# Altium schematic symbol library TDII_SCH_LIB_R00.SchLib: 21 symbols
Pins are listed as number, name and electrical type; pins without a type are passive.

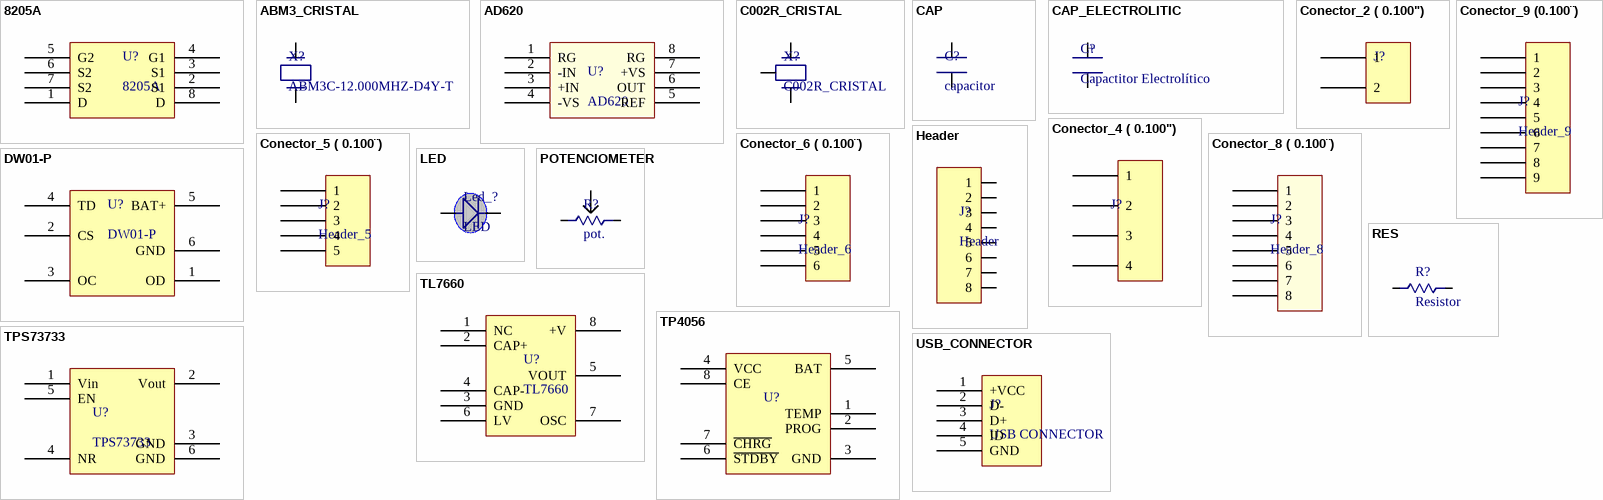
[diagram p0: symbols 8205A to USB_CONNECTOR]

## 8205A
designator U?
pins: 1 D, 2 S1, 3 S1, 4 G1, 5 G2, 6 S2, 7 S2, 8 D

## ABM3_CRISTAL
designator X?, comment ABM3C-12.000MHZ-D4Y-T
pins: 1, 2

## AD620
designator U?
pins: 1 RG, 2 -IN, 3 +IN, 4 -VS, 5 REF, 6 OUT, 7 +VS, 8 RG

## C002R_CRISTAL
designator X?
pins: 1, 2, 3

## CAP
designator C?, comment capacitor
footprint C_0805
pins: 1, 2

## CAP_ELECTROLITIC
designator C?, comment Capactitor Electrolítico
pins: 1, 2
text: +

## Conector_2 ( 0.100")
designator J?, comment Conector (0.100")  (value not drawn)
pins: 1, 2

## Conector_4 ( 0.100")
designator J?
pins: 1, 2, 3, 4

## Conector_5 ( 0.100¨)
designator J?, comment Header_5
pins: 1, 2, 3, 4, 5

## Conector_6 ( 0.100¨)
designator J?, comment Header_6
pins: 1, 2, 3, 4, 5, 6

## Conector_8 ( 0.100¨)
designator J?, comment Header_8
pins: 1, 2, 3, 4, 5, 6, 7, 8

## Conector_9 (0.100¨)
designator J?, comment Header_9
pins: 1, 2, 3, 4, 5, 6, 7, 8, 9

## DW01-P
designator U?
pins: 1 OD, 2 CS, 3 OC, 4 TD, 5 BAT+, 6 GND

## Header
designator J?
footprint Header_THT
pins: 1, 2, 3, 4, 5, 6, 7, 8

## LED
designator Led_?
footprint LED_0805
pins: 1, 2

## POTENCIOMETER
designator R?, comment pot.
pins: 1, 2, 3

## RES
designator R?, comment Resistor
footprint C_0805
pins: 1, 2

## TL7660
designator U?
pins: 1 NC, 2 CAP+, 3 GND, 4 CAP-, 5 VOUT, 6 LV, 7 OSC, 8 +V

## TP4056
designator U?
pins: 1 TEMP, 2 PROG, 3 GND, 4 VCC, 5 BAT, 6 ~{STDBY}, 7 ~{CHRG}, 8 CE

## TPS73733
designator U?
pins: 1 Vin, 2 Vout, 3 GND, 4 NR, 5 EN, 6 GND

## USB_CONNECTOR
designator J?, comment USB CONNECTOR
pins: 1 +VCC, 2 D-, 3 D+, 4 ID, 5 GND